# EAGLE library part MPU-6050 (library sf-invensense)
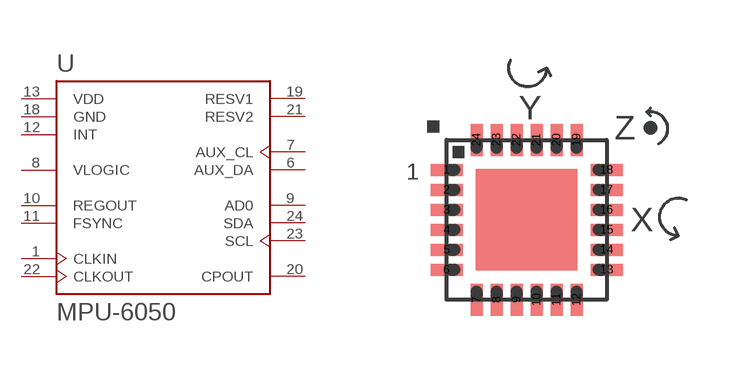
[diagram p1: symbol with the pads of QFN24MPU; footprint QFN24MPU]

Designator prefix U

## MPU-6050  [QFN24MPU]
1  CLKIN  in
6  AUX_DA
7  AUX_CL
8  VLOGIC  in
9  AD0
10  REGOUT
11  FSYNC  in
12  INT
13  VDD  pwr
18  GND  pwr
19  RESV1
20  CPOUT  out
21  RESV2
22  CLKOUT  out
23  SCL  in
24  SDA

## Footprint QFN24MPU (pad centres in mm)
smd 0.8 x 0.3: 1 -2,1.25; 2 -2,0.75; 3 -2,0.25; 4 -2,-0.25; 5 -2,-0.75; 6 -2,-1.25; 13 2,-1.25; 14 2,-0.75; 15 2,-0.25; 16 2,0.25; 17 2,0.75; 18 2,1.25
smd 0.3 x 0.8: 7 -1.25,-2; 8 -0.75,-2; 9 -0.25,-2; 10 0.25,-2; 11 0.75,-2; 12 1.25,-2; 19 1.25,2; 20 0.75,2; 21 0.25,2; 22 -0.25,2; 23 -0.75,2; 24 -1.25,2